# EAGLE library part S25FL064LABMFI013 (library S25FL064LABMFI013)
FLASH - NOR Memory IC 64Mb (8M x 8) SPI - Quad I/O, QPI 8-SOIC Source: Datasheet <http://www.cypress.com/file/316661/download>
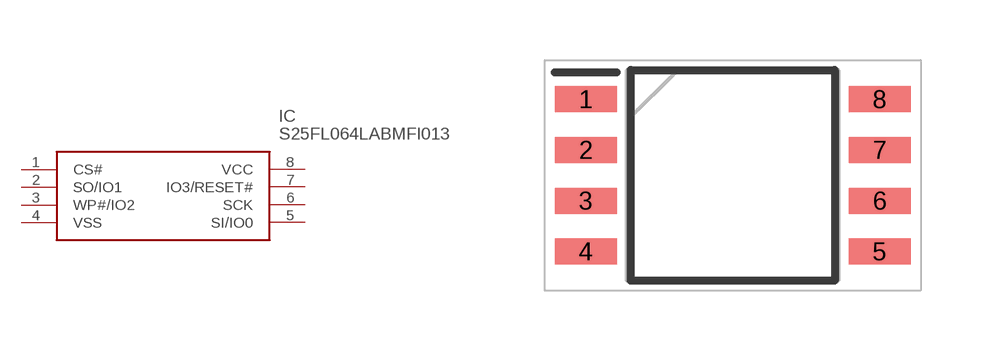
[diagram p0: symbol with the pads of SOIC127P800X216-8N; footprint SOIC127P800X216-8N]

Designator prefix IC

## S25FL064LABMFI013 (Description: FLASH - NOR Memory IC 64Mb (8M x 8) SPI - Quad I/O, QPI 8-SOIC; Height: 2.16mm; Manufacturer_Name: Cypress Semiconductor; Manufacturer_Part_Number: S25FL064LABMFI013; Mouser_Part_Number: 727-S25FL064LAMFI013; Mouser_Price-Stock: https://www.mouser.com/Search/Refine.aspx?Keyword=727-S25FL064LAMFI013)  [SOIC127P800X216-8N]
1  CS#
2  SO/IO1
3  WP#/IO2
4  VSS
5  SI/IO0
6  SCK
7  IO3/RESET#
8  VCC

## Footprint SOIC127P800X216-8N (pad centres in mm)
SOC008 - 8-Lead SOP (208 mils width)
smd 1.55 x 0.65: 1 -3.675,1.905; 2 -3.675,0.635; 3 -3.675,-0.635; 4 -3.675,-1.905; 5 3.675,-1.905; 6 3.675,-0.635; 7 3.675,0.635; 8 3.675,1.905